# Altium schematic symbol library Module.SchLib: 11 symbols
Pins are listed as number, name and electrical type; pins without a type are passive.

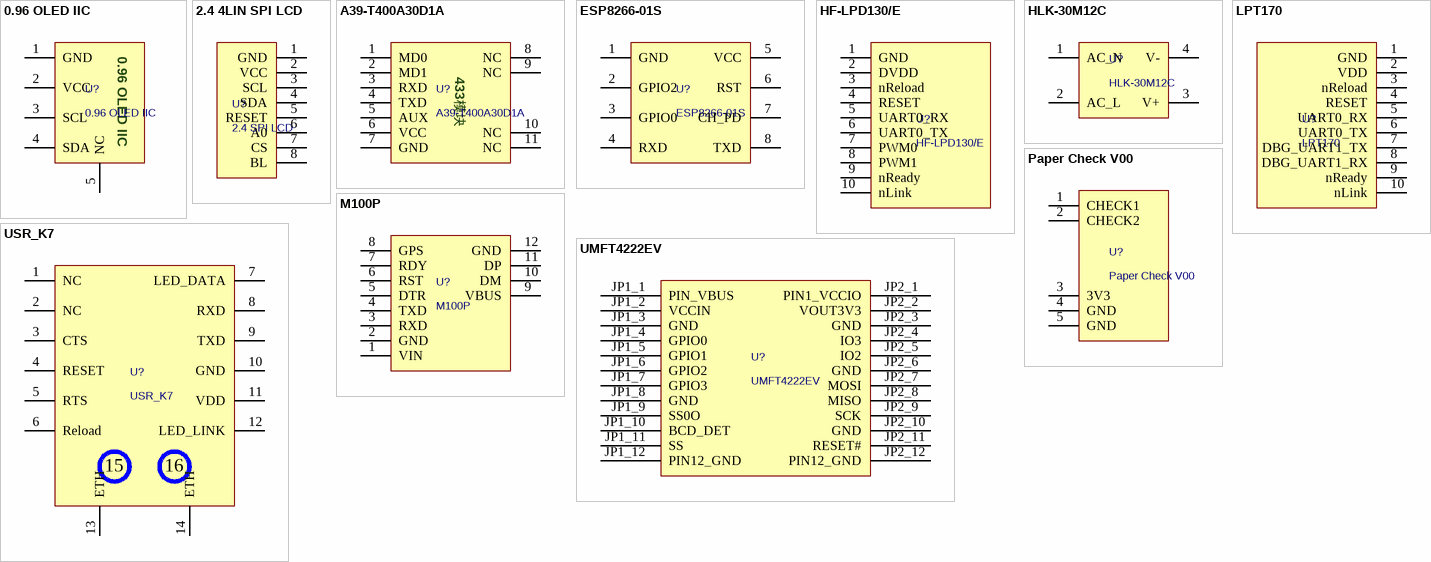
[diagram p0: symbols 0.96 OLED IIC to USR_K7]

## 0.96 OLED IIC
designator U?
Value: 0.96 OLED IIC; State: *; ComponentLink1Description: DataSheet
pins: 1 GND, 2 VCC, 3 SCL, 4 SDA, 5 NC

## 2.4 4LIN SPI LCD
designator U?, comment 2.4 SPI LCD
2.4 4LIN SPI LCD / ST7789; Value: 2.4 SPI LCD; State: *; ComponentLink1Description: DataSheet
pins: 1 GND, 2 VCC, 3 SCL, 4 SDA, 5 RESET, 6 A0, 7 CS, 8 BL

## A39-T400A30D1A
designator U?
433模块; Value: A39-T400A30D1A; State: *; ComponentLink1Description: DataSheet
pins: 1 MD0, 2 MD1, 3 RXD, 4 TXD, 5 AUX, 6 VCC, 7 GND, 8 NC, 9 NC, 10 NC, 11 NC

## ESP8266-01S
designator U?
ESP8266; Value: ESP8266-01S; State: *; ComponentLink1Description: DataSheet
pins: 1 GND, 2 GPIO2, 3 GPIO0, 4 RXD, 5 VCC, 6 RST, 7 CH_PD, 8 TXD

## HF-LPD130/E
designator U?
wifi模块; Value: HF-LPD130/E; State: *; Value_Footprint: HF-LPD130/E; ComponentLink1Description: DataSheet
pins: 1 GND, 2 DVDD, 3 nReload, 4 RESET, 5 UART0_RX, 6 UART0_TX, 7 PWM0, 8 PWM1, 9 nReady, 10 nLink

## HLK-30M12C
designator U?
AC-DC 30W12V; Value: HLK-30M12C; State: *; Value_Footprint: HLK-30M12C; ComponentLink1Description: DataSheet
pins: 1 AC_N, 2 AC_L, 3 V+, 4 V-

## LPT170
designator U?
WIFI模块; Value: LPT170; State: *; ComponentLink1Description: DataSheet
footprint PT170
pins: 1 GND, 2 VDD, 3 nReload, 4 RESET, 5 UART0_RX, 6 UART0_TX, 7 DBG_UART1_TX, 8 DBG_UART1_RX, 9 nReady, 10 nLink

## M100P
designator U?
4G模块; Value: M100P; State: *; ComponentLink1Description: DataSheet; ComponentLink1URL: https://yinerda.yuque.com/yt1fh6/4gdtu/qpk0i4go2d5dlhnh
pins: 1 VIN, 2 GND, 3 RXD, 4 TXD, 5 DTR, 6 RST, 7 RDY, 8 GPS, 9 VBUS, 10 DM, 11 DP, 12 GND

## Paper Check V00
designator U?
彩票热敏打印机光眼检测; Value: Paper Check V00; State: *; Value_Footprint: Paper Check V00; ComponentLink1Description: DataSheet
pins: 1 CHECK1, 2 CHECK2, 3 3V3, 4 GND, 5 GND

## UMFT4222EV
designator U?
USB转SPI; Value: UMFT4222EV; State: *; ComponentLink1Description: DataSheet; ComponentLink1URL: https://www.mouser.hk/datasheet/2/163/DS_UMFT4222EV-515520.pdf
pins: JP1_1 PIN_VBUS, JP1_2 VCCIN, JP1_3 GND, JP1_4 GPIO0, JP1_5 GPIO1, JP1_6 GPIO2, JP1_7 GPIO3, JP1_8 GND, JP1_9 SS0O, JP1_10 BCD_DET, JP1_11 SS, JP1_12 PIN12_GND, JP2_1 PIN1_VCCIO, JP2_2 VOUT3V3, JP2_3 GND, JP2_4 IO3, JP2_5 IO2, JP2_6 GND, JP2_7 MOSI, JP2_8 MISO, JP2_9 SCK, JP2_10 GND, JP2_11 RESET#, JP2_12 PIN12_GND

## USR_K7
designator U?
有人以太网模块; Value: USR_K7; State: *; Value_Footprint: USR_K7; ComponentLink1Description: DataSheet; ComponentLink1URL: https://www.usr.cn/Product/131.html
pins: 1 NC, 2 NC, 3 CTS, 4 RESET, 5 RTS, 6 Reload, 7 LED_DATA, 8 RXD, 9 TXD, 10 GND, 11 VDD, 12 LED_LINK, 13 ETH, 14 ETH
text: 15; 16